# Altium footprint library Diodes.PcbLib: 7 footprints
Each footprint in its own frame and in the unit in brackets; x right, y up, seen from the top. Pads: shape width x height; smd on the part's side, far side on the other; paste and mask are expansions set on the pad; w line width, h text height; cw(c..) or ccw(c..) is an arc to the next point about the centre after c.
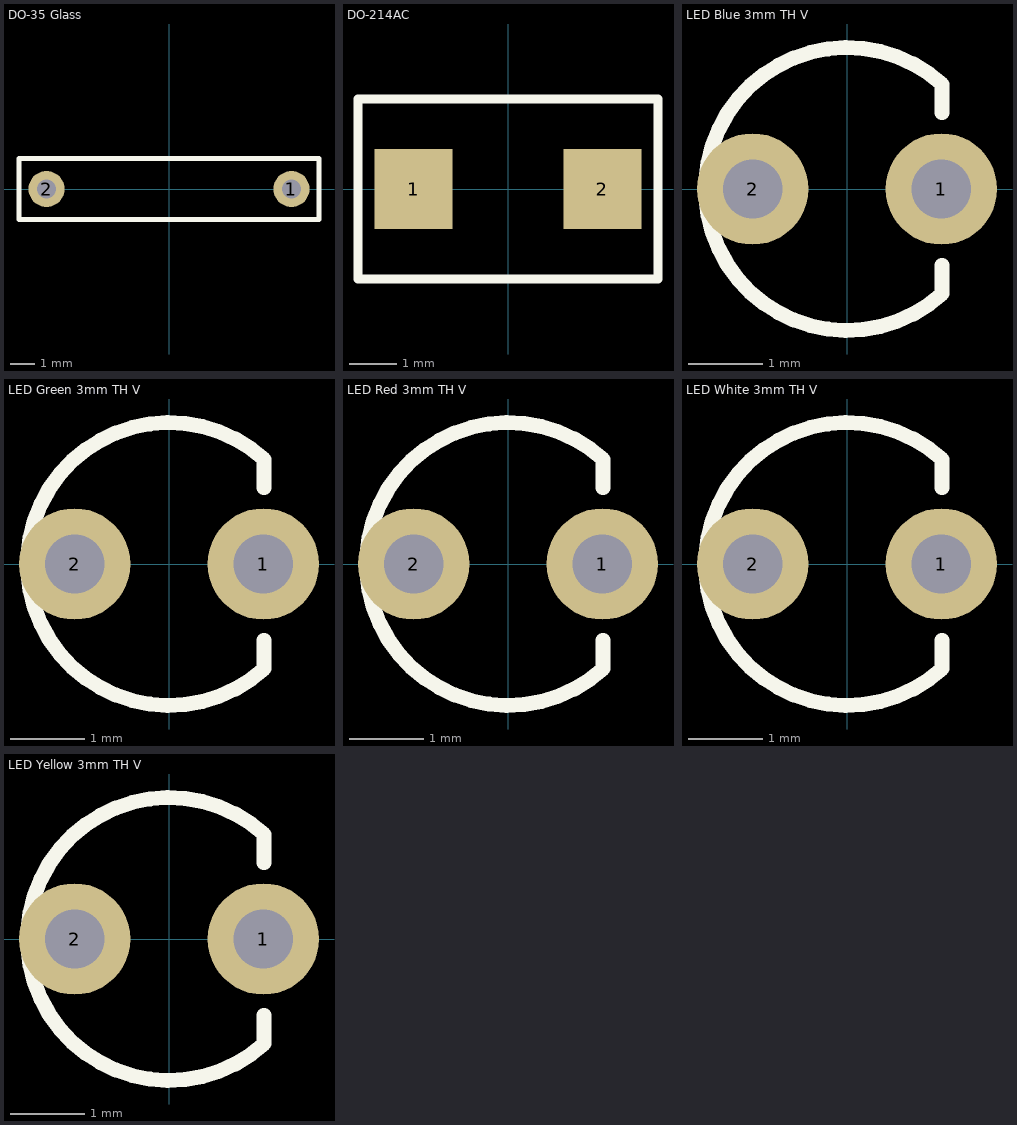
[diagram p0: the footprints below, top view; thin cyan lines are the x and y axes]

## DO-35 Glass [mm] "DO-35 Glass 4mils"
height 2
pads (2):
  round 1.5 hole 0.8: 1(5.08,0) 2(-5.08,0)
Top Overlay:
  lines w0.2: -6.223,-1.27 -6.223,1.27 6.223,1.27 6.223,-1.27 -6.223,-1.27
3D body: height 1.81, standoff -2.99, extent -5.225,-0.901 5.225,0.9

## DO-214AC [mm] "DO-214AC, SMA"
height 2.5
pads (2):
  rect 1.65x1.7 smd: 1(-2,0) 2(2,0)
Top Overlay:
  lines w0.2: -3.175,-1.905 -3.175,1.905 3.175,1.905 3.175,-1.905 -3.175,-1.905
3D body: height 2.22, standoff 0.01, extent -2.5,-1.348 2.5,1.348

## LED Blue 3mm TH V [mm] "LED Blue 3mm TH V"
height 7.5
pads (2):
  round 1.5 hole 0.8: 1(1.27,0) 2(-1.27,0)
Top Overlay:
  lines w0.2: 1.281,-1.027 1.281,-1.41 cw(c0,0) 1.281,1.41 1.281,1.027
3D body: height 6.6, standoff -3.1, extent -1.6,-1.6 1.5,1.6

## LED Green 3mm TH V [mm] "LED Green 3mm TH V"
height 7.5
pads (2):
  round 1.5 hole 0.8: 1(1.27,0) 2(-1.27,0)
Top Overlay:
  lines w0.2: 1.281,-1.027 1.281,-1.41 cw(c0,0) 1.281,1.41 1.281,1.027
3D body: height 6.6, standoff -3.1, extent -1.6,-1.6 1.5,1.6

## LED Red 3mm TH V [mm] "LED Red 3mm TH V"
height 7.5
pads (2):
  round 1.5 hole 0.8: 1(1.27,0) 2(-1.27,0)
Top Overlay:
  lines w0.2: 1.281,-1.027 1.281,-1.41 cw(c0,0) 1.281,1.41 1.281,1.027
3D body: height 6.6, standoff -3.1, extent -1.6,-1.6 1.5,1.6

## LED White 3mm TH V [mm] "LED White 3mm TH V"
height 7.5
pads (2):
  round 1.5 hole 0.8: 1(1.27,0) 2(-1.27,0)
Top Overlay:
  lines w0.2: 1.281,-1.027 1.281,-1.41 cw(c0,0) 1.281,1.41 1.281,1.027
3D body: height 6.6, standoff -3.1, extent -1.6,-1.6 1.5,1.6

## LED Yellow 3mm TH V [mm] "LED Yellow 3mm TH V"
height 7.5
pads (2):
  round 1.5 hole 0.8: 1(1.27,0) 2(-1.27,0)
Top Overlay:
  lines w0.2: 1.281,-1.027 1.281,-1.41 cw(c0,0) 1.281,1.41 1.281,1.027
3D body: height 6.6, standoff -3.1, extent -1.6,-1.6 1.5,1.6